# EAGLE library part 21P (library con-degson)
DEGSON DG55 CONNECTOR
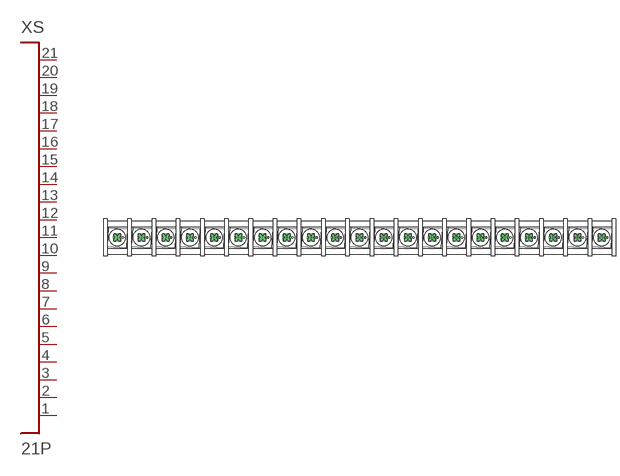
[diagram p15: symbol with the pads of DG55CB-21P-1; footprint DG55CB-21P-1]

Designator prefix XS

## 21P  [DG55CB-21P-1]
1  P$1
2  P$2
3  P$3
4  P$4
5  P$5
6  P$6
7  P$7
8  P$8
9  P$9
10  P$10
11  P$11
12  P$12
13  P$13
14  P$14
15  P$15
16  P$16
17  P$17
18  P$18
19  P$19
20  P$20
21  P$21

## Footprint DG55CB-21P-1 (pad centres in mm)
DG55
drill 1.8 pad 3.6: 1 -100,0; 2 -90,0; 3 -80,0; 4 -70,0; 5 -60,0; 6 -50,0; 7 -40,0; 8 -30,0; 9 -20,0; 10 -10,0; 11 0,0; 12 10,0; 13 20,0; 14 30,0; 15 40,0; 16 50,0; 17 60,0; 18 70,0; 19 80,0; 20 90,0; 21 100,0